# EAGLE library part MMPQ3904 (library kwoo)
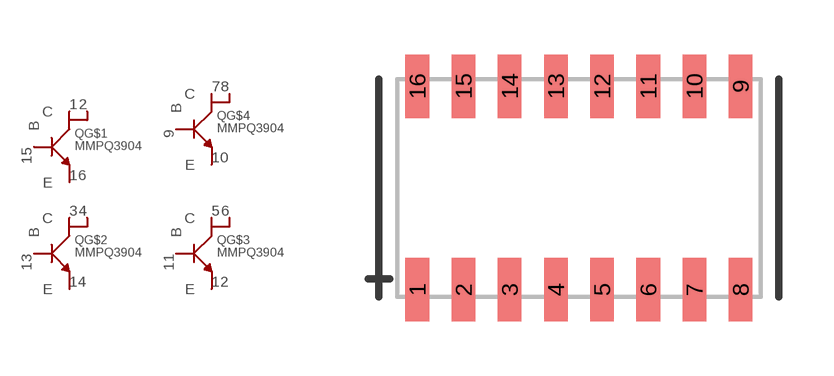
[diagram p19: symbol with the pads of 16-SOIC; footprint 16-SOIC]

Designator prefix Q; gates G$1=NPN_TRANSISTOR_4PIN G$2=NPN_TRANSISTOR_4PIN G$3=NPN_TRANSISTOR_4PIN G$4=NPN_TRANSISTOR_4PIN

## MMPQ3904  [16-SOIC]
1  G$1:C
2  G$1:C1
3  G$2:C
4  G$2:C1
5  G$3:C
6  G$3:C1
7  G$4:C
8  G$4:C1
9  G$4:B
10  G$4:E
11  G$3:B
12  G$3:E
13  G$2:B
14  G$2:E
15  G$1:B
16  G$1:E

## Footprint 16-SOIC (pad centres in mm)
smd 0.65 x 1.75: 1 -4.445,-2.8; 2 -3.175,-2.8; 3 -1.905,-2.8; 4 -0.635,-2.8; 5 0.635,-2.8; 6 1.905,-2.8; 7 3.175,-2.8; 8 4.445,-2.8; 9 4.445,2.8; 10 3.175,2.8; 11 1.905,2.8; 12 0.635,2.8; 13 -0.635,2.8; 14 -1.905,2.8; 15 -3.175,2.8; 16 -4.445,2.8